# EAGLE library part TC1265 (library ARVP)
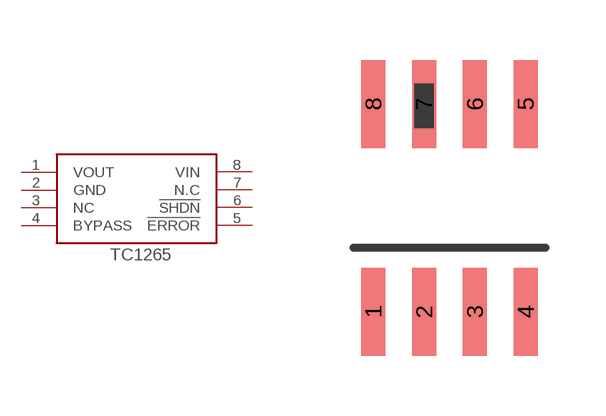
[diagram p5: symbol with the pads of SO-08; footprint SO-08]

Designator prefix -

## TC1265  [SO-08]
1  VOUT
2  GND
3  NC
4  BYPASS
5  !ERROR
6  !SHDN
7  N.C
8  VIN

## Footprint SO-08 (pad centres in mm)
Small Outline Narrow Plastic Gull Wing 150-mil body, package type SN
smd 0.6 x 2.2: 1 -1.905,-2.6; 2 -0.635,-2.6; 3 0.635,-2.6; 4 1.905,-2.6; 5 1.905,2.6; 6 0.635,2.6; 7 -0.635,2.6; 8 -1.905,2.6